# Altium schematic symbol library CC3200.SCHLIB: 30 symbols
Pins are listed as number, name and electrical type; pins without a type are passive.

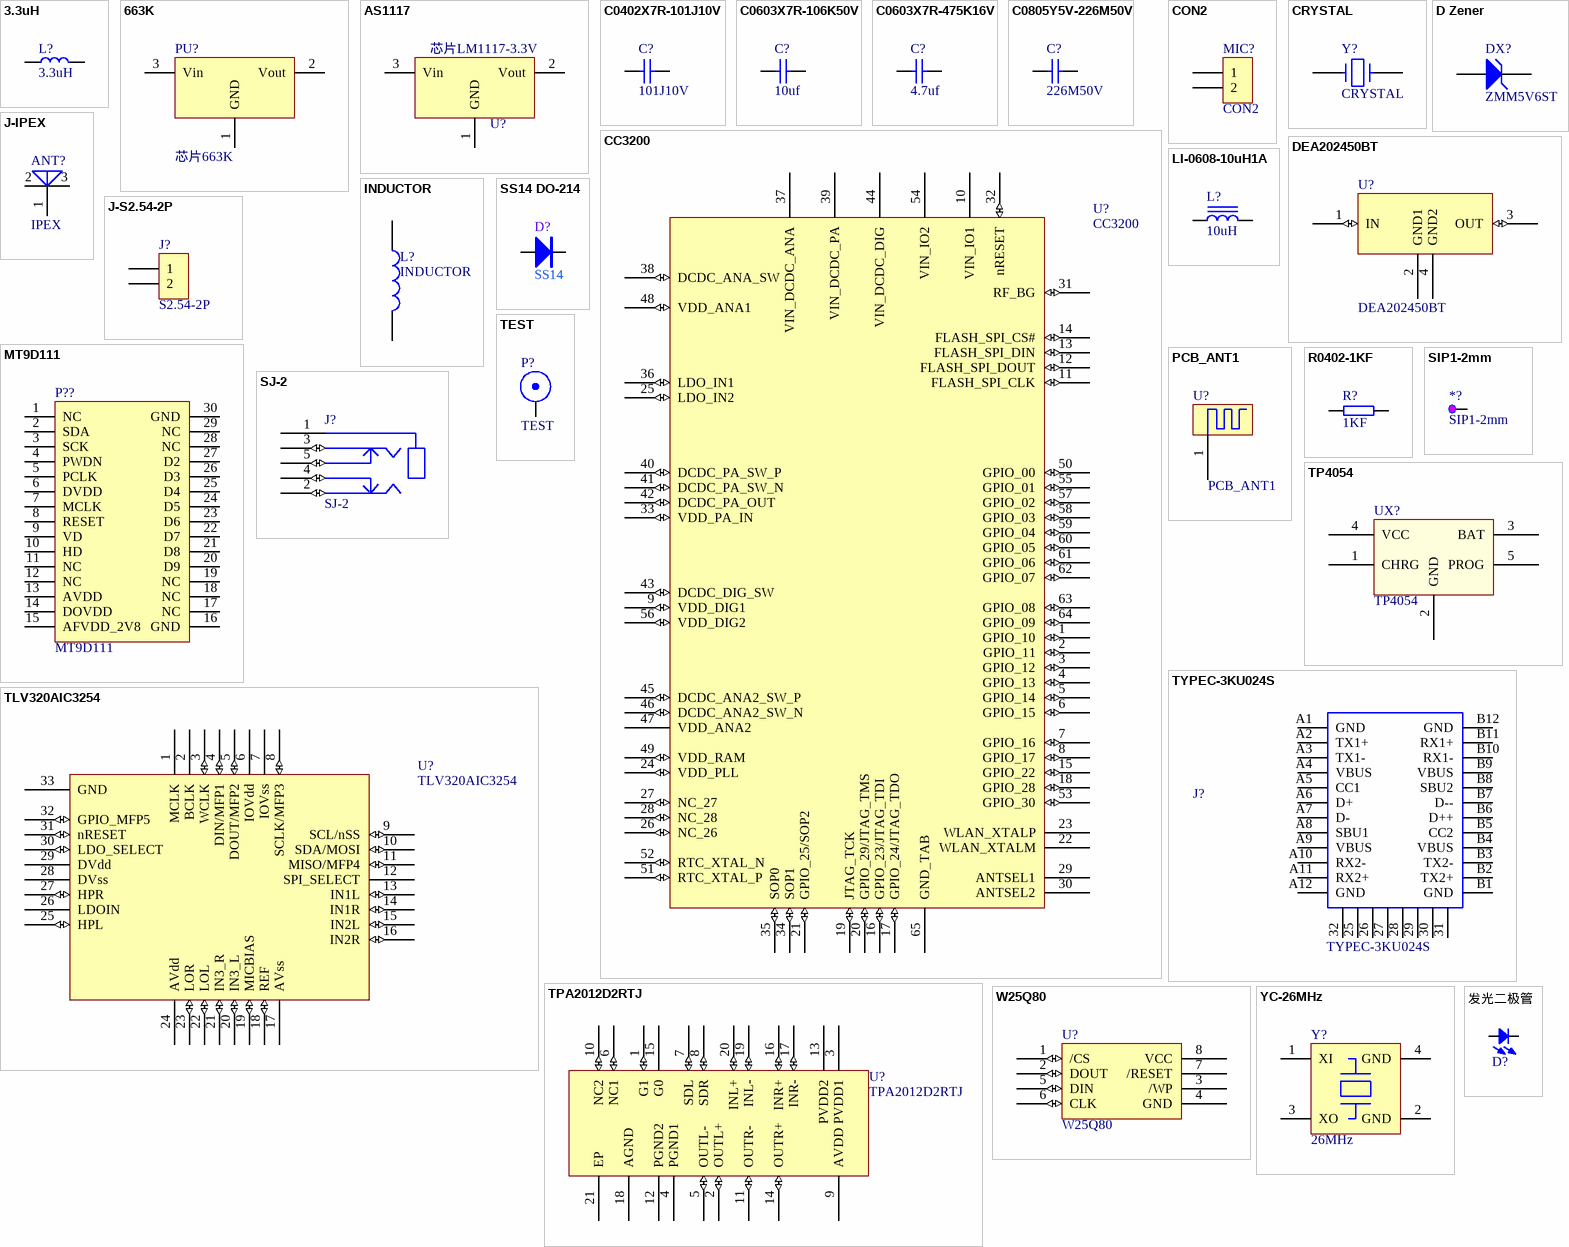
[diagram p0: symbols 3.3uH to 发光二极管]

## 3.3uH
designator L?
贴片电感-屏蔽; 生产商: *; 供应商: *; 备注: *
pins: 1, 2

## 663K
designator PU?, comment 芯片663K
footprint SOT23
pins: 1 GND, 2 Vout, 3 Vin

## AS1117
designator U?, comment 芯片LM1117-3.3V
footprint SOT223S
pins: 1 GND, 2 Vout, 3 Vin

## C0402X7R-101J10V
designator C?, comment 101J10V
贴片电容-陶瓷; 规格型号: 100pF±5%_10V_X7R_C0402; 生产商: 风华 三星; 供应商: *; 备注: *
footprint C0402
pins: 1, 2

## C0603X7R-106K50V
designator C?, comment 10uf
贴片电容-陶瓷; 规格型号: 10uF±10%_50V_X7R_C0603; 生产商: 风华 三星; 供应商: *; 备注: *
footprint C0603
pins: 1, 2

## C0603X7R-475K16V
designator C?, comment 4.7uf
贴片电容-陶瓷; 规格型号: 4.7uF±10%_16V_X7R_C0603; 生产商: 风华 三星; 供应商: *; 备注: *
footprint C0603
pins: 1, 2

## C0805Y5V-226M50V
designator C?, comment 226M50V
贴片电容-陶瓷; 规格型号: 22uF±20%_50V_Y5V_C0805; 生产商: 风华 三星; 供应商: *; 备注: *
footprint C0805
pins: 1, 2

## CC3200
designator U?
footprint CC3200
pins: 1 GPIO_10 (io), 2 GPIO_11 (io), 3 GPIO_12 (io), 4 GPIO_13 (io), 5 GPIO_14 (io), 6 GPIO_15 (io), 7 GPIO_16 (io), 8 GPIO_17 (io), 9 VDD_DIG1 (io), 10 VIN_IO1 (power), 11 FLASH_SPI_CLK (io), 12 FLASH_SPI_DOUT (io), 13 FLASH_SPI_DIN (io), 14 FLASH_SPI_CS# (io), 15 GPIO_22 (io), 16 GPIO_23/JTAG_TDI (io), 17 GPIO_24/JTAG_TDO (io), 18 GPIO_28 (io), 19 JTAG_TCK (io), 20 GPIO_29/JTAG_TMS (io), 21 GPIO_25/SOP2 (io), 22 WLAN_XTALM, 23 WLAN_XTALP, 24 VDD_PLL (io), 25 LDO_IN2 (io), 26 NC_26 (io), 27 NC_27 (io), 28 NC_28 (io), 29 ANTSEL1, 30 ANTSEL2, 31 RF_BG (io), 32 nRESET (io), 33 VDD_PA_IN (io), 34 SOP1 (io), 35 SOP0 (io), 36 LDO_IN1 (io), 37 VIN_DCDC_ANA (power), 38 DCDC_ANA_SW (io), 39 VIN_DCDC_PA (power), 40 DCDC_PA_SW_P (io), 41 DCDC_PA_SW_N (io), 42 DCDC_PA_OUT (io), 43 DCDC_DIG_SW (io), 44 VIN_DCDC_DIG (power), 45 DCDC_ANA2_SW_P (io), 46 DCDC_ANA2_SW_N (io), 47 VDD_ANA2 (power), 48 VDD_ANA1 (io), 49 VDD_RAM (io), 50 GPIO_00 (io), 51 RTC_XTAL_P (io), 52 RTC_XTAL_N (io), 53 GPIO_30 (io), 54 VIN_IO2 (power), 55 GPIO_01 (io), 56 VDD_DIG2 (io), 57 GPIO_02 (io), 58 GPIO_03 (io), 59 GPIO_04 (io), 60 GPIO_05 (io), 61 GPIO_06 (io), 62 GPIO_07 (io), 63 GPIO_08 (io), 64 GPIO_09 (io), 65 GND_TAB (power)

## CON2
designator MIC?
Connector
footprint MIC-6MM
pins: 1, 2

## CRYSTAL
designator Y?
pins: 1, 2

## D Zener
designator DX?, comment ZMM5V6ST
Zener Diode; Published: *; LatestRevisionDate: *; LatestRevisionNote: *; PackageReference: *; Publisher: *
footprint 1206A
pins: 1 A, 2 K
2 alternate drawings of the same symbol

## DEA202450BT
designator U?
footprint DEA202450BT
pins: 1 IN (io), 2 GND1 (power), 3 OUT (io), 4 GND2 (power)

## INDUCTOR
designator L?
footprint 0402_SMALL
pins: 1, 2

## J-IPEX
designator ANT?, comment IPEX
footprint J-IPEX
pins: 1 W, 2, 3

## J-S2.54-2P
designator J?, comment S2.54-2P
单排排针-直针; 货品编码: 372013; 供应商: *; 规格型号: S2.54-2P; 备注: *
footprint S2.54-2P (Footprint not found)
pins: 1, 2

## LI-0608-10uH1A
designator L?, comment 10uH
插件电感-工形; 规格型号: LI-0608-10uH1A; 货品编码: 无样品无编码; 生产商: *; 供应商: *; 备注: *
footprint LI-0608
pins: 1, 2

## MT9D111
designator P??
footprint MT9D111_A
pins: 1 NC, 2 SDA, 3 SCK, 4 PWDN, 5 PCLK, 6 DVDD, 7 MCLK, 8 RESET, 9 VD, 10 HD, 11 NC, 12 NC, 13 AVDD, 14 DOVDD, 15 AFVDD_2V8, 16 GND, 17 NC, 18 NC, 19 NC, 20 D9, 21 D8, 22 D7, 23 D6, 24 D5, 25 D4, 26 D3, 27 D2, 28 NC, 29 NC, 30 GND

## PCB_ANT1
designator U?
footprint BLE-ANT1
pins: 1 (power)

## R0402-1KF
designator R?, comment 1KF
贴片电阻-通用; 生产商: 厚声 国巨; 规格型号: 1K±1%_1/10W_±200ppm_R0402; 备注: *; 供应商: *
footprint R0402
pins: 1, 2

## SIP1-2mm
designator *?
footprint SIP1-2mm
footprint TESTPAD
pins: 1

## SJ-2
designator J?
footprint PJ-393-8P
pins: 1 (power), 2 (io), 3 (io), 4 (io), 5 (io)

## SS14 DO-214
designator D?, comment SS14
二极管; 物料代码: 2.01.05.008
footprint SMA
footprint SOD-80
footprint SOD-123 (贴片二极管)
footprint 插件二极管9*3MM-W (1N4001系列)
footprint 插件二极管Φ5 (插件二极管插件二极管Φ5)
footprint 插件二极管Φ3 (插件二极管插件二极管Φ5)
pins: A, K

## TEST
designator P?
BNC Elbow Connector; LatestRevisionDate: 17-Jul-2002; LatestRevisionNote: Re-released for DXP Platform.; Publisher: Altium Limited
footprint TP
pins: 1 Y1

## TLV320AIC3254
designator U?
footprint TLV320AIC3254
pins: 1 MCLK (power), 2 BCLK (power), 3 WCLK (io), 4 DIN/MFP1 (io), 5 DOUT/MFP2 (io), 6 IOVdd (power), 7 IOVss (power), 8 SCLK/MFP3 (io), 9 SCL/nSS (io), 10 SDA/MOSI (io), 11 MISO/MFP4 (io), 12 SPI_SELECT (power), 13 IN1L (io), 14 IN1R (io), 15 IN2L (io), 16 IN2R (io), 17 AVss (power), 18 REF (io), 19 MICBIAS (io), 20 IN3_L (io), 21 IN3_R (io), 22 LOL (io), 23 LOR (io), 24 AVdd (power), 25 HPL (io), 26 LDOIN (power), 27 HPR (io), 28 DVss (power), 29 DVdd (power), 30 LDO_SELECT (io), 31 nRESET (io), 32 GPIO_MFP5 (io), 33 GND (power)

## TP4054
designator UX?
footprint SOT23-5
pins: 1 CHRG, 2 GND, 3 BAT, 4 VCC, 5 PROG

## TPA2012D2RTJ
designator U?
footprint TPA2012D2RTJ
pins: 1 G1 (io), 2 OUTL+ (io), 3 PVDD1 (power), 4 PGND1 (power), 5 OUTL- (io), 6 NC1 (io), 7 SDL (io), 8 SDR (io), 9 AVDD (power), 10 NC2 (io), 11 OUTR- (io), 12 PGND2 (power), 13 PVDD2 (power), 14 OUTR+ (io), 15 G0 (power), 16 INR+ (io), 17 INR- (io), 18 AGND (power), 19 INL- (io), 20 INL+ (io), 21 EP (power)

## TYPEC-3KU024S
designator J?
DIP Switch; Published: 24-Mar-1999; LatestRevisionDate: 17-Jul-2002; LatestRevisionNote: Re-released for DXP Platform.; PackageReference: DIP-18; Publisher: Altium Limited; Code_JEDEC: MO-036-AE
footprint MICRO -TYPE C
simulation model dpsw9 (Spice Subcircuit)
pins: 25, 26 B13, 27 B14, 28 B15, 29 B16, 30 B17, 31 B18, 32 B13, A1 GND, A2 TX1+, A3 TX1-, A4 VBUS, A5 CC1, A6 D+, A7 D-, A8 SBU1, A9 VBUS, A10 RX2-, A11 RX2+, A12 GND, B1 GND, B2 TX2+, B3 TX2-, B4 VBUS, B5 CC2, B6 D++, B7 D--, B8 SBU2, B9 VBUS, B10 RX1-, B11 RX1+, B12 GND

## W25Q80
designator U?
footprint SO-8S
pins: 1 /CS (io), 2 DOUT (io), 3 /WP, 4 GND (power), 5 DIN (io), 6 CLK (io), 7 /RESET, 8 VCC (power)

## YC-26MHz
designator Y?, comment 26MHz
晶振-贴片无源; 规格型号: 26MHz_贴片晶振3225; 货品编码: 无样品无编码; 生产商: *; 供应商: *; 备注: *
footprint Y-CPX-32GA-4P
pins: 1 XI, 2 GND, 3 XO, 4 GND
2 alternate drawings of the same symbol

## 发光二极管
designator D?  (value not drawn)
footprint 0603D
footprint LED_DIP
footprint 0805D (Footprint not found)
pins: A, K